# Altium footprint library PCB - POWER MODULE - TI MICROSIP-8 SIL0008E.PCBLIB: 1 footprints
Each footprint in its own frame and in the unit in brackets; x right, y up, seen from the top. Pads: shape width x height; smd on the part's side, far side on the other; paste and mask are expansions set on the pad; w line width, h text height; cw(c..) or ccw(c..) is an arc to the next point about the centre after c.
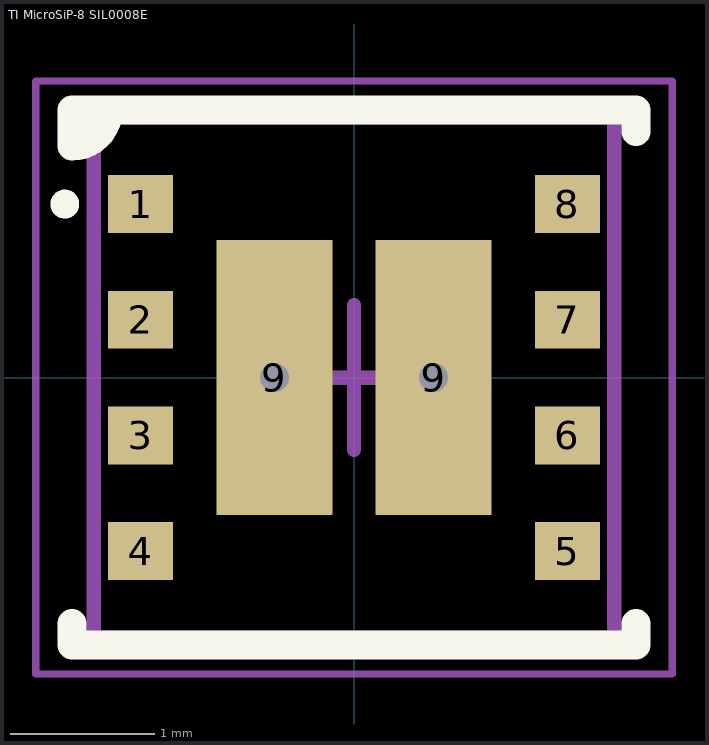
[diagram p0: the footprint, top view; thin cyan lines are the x and y axes]

## TI MicroSiP-8 SIL0008E [mm] "MicroSIP, 8-Leads, Body 3.50x3.50mm, Pitch 0.80mm, Thermal Pad 0.00x0.00mm, IPC Medium Density"
height 1.75
pads (10):
  rect 0.45x0.4 smd: 1(-1.475,1.2) 2(-1.475,0.4) 3(-1.475,-0.4) 4(-1.475,-1.2) 5(1.475,-1.2) 6(1.475,-0.4) 7(1.475,0.4) 8(1.475,1.2)
  rect 0.8x1.9 smd paste-2: 9(-0.55,0) 9(0.55,0)
via -0.55,0 diameter 0.6 hole 0.2
via 0.55,0 diameter 0.6 hole 0.2
Top Overlay:
  circle w0.1: c-2,1.2 r0.05
  region: -1.95,1.85 -1.7,1.85 -1.95,1.6
  lines w0.2: -1.95,-1.7 -1.95,-1.85 1.95,-1.85 1.95,-1.7 ; -1.7,1.85 cw(c-1.95,1.85) -1.95,1.6 -1.95,1.85 1.95,1.85 1.95,1.7
Top Paste:
  rectangle: 0.17,0.145 0.93,0.905
  region: -0.17,0.905 -0.93,0.905 -0.93,0.145 -0.17,0.145
  region: -0.17,-0.145 -0.93,-0.145 -0.93,-0.905 -0.17,-0.905
  rectangle: 0.17,-0.905 0.93,-0.145
Mechanical 13:
  lines w0.1: -1.8,-1.8 -1.8,1.8 1.8,1.8 1.8,-1.8 -1.8,-1.8
Mechanical 15:
  lines w0.05: -2.2,-2.05 -2.2,2.05 2.2,2.05 2.2,-2.05 -2.2,-2.05
  lines w0.1: -0.5,0 0.5,0 ; 0,-0.5 0,0.5
3D body "TI LMZ21701.STEP": height 1.75, standoff 0, extent -1.75,-1.75 1.75,1.75